# Altium schematic symbol library LM7805.SchLib: 1 symbol
Pins are listed as number, name and electrical type; pins without a type are passive.

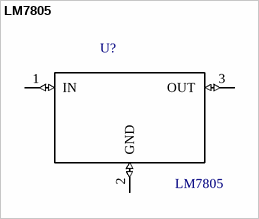
[diagram p0: symbol LM7805]

## LM7805
designator U?
Power Management, Linear Regulators, Semiconductors and Actives; MF: Fairchild Semiconductor; Package: TO-220-3 Fairchild Semiconductor; Price: None; MP: LM7805; SnapEDA_Link: https://www.snapeda.com/parts/LM7805/Fairchild%20Semiconductor/view-part/?ref=snap; Availability: Unavailable; Value: *
footprint TO220
pins: 1 IN (io), 2 GND (io), 3 OUT (io)